# Altium schematic symbol library Schlib_Ruimeng.SchLib: 2 symbols
Pins are listed as number, name and electrical type; pins without a type are passive.

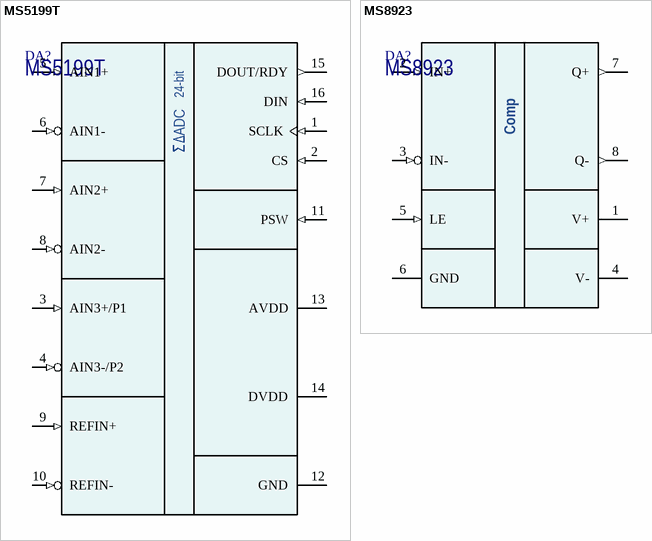
[diagram p0: symbols MS5199T to MS8923]

## MS5199T
designator DA?
Low Noise, Low Power Dissipation, 24-Bit Σ-Δ ADC; Manufacturer: Ruimeng; Part Number: MS5199T; Package: TSSOP-16
footprint TSSOP-16 (TSOP, 20-Leads, Body 6.50x4.40mm, Pitch 0.65mm, IPC Medium Density)
pins: 1 SCLK (in), 2 CS (in), 3 AIN3+/P1 (in), 4 AIN3-/P2 (in), 5 AIN1+ (in), 6 AIN1- (in), 7 AIN2+ (in), 8 AIN2- (in), 9 REFIN+ (in), 10 REFIN- (in), 11 PSW (in), 12 GND (power), 13 AVDD (power), 14 DVDD (power), 15 DOUT/RDY (out), 16 DIN (in)
text: 24-bit; ADC

## MS8923
designator DA?
Low-Voltage, High-Precision, Push-Pull Output Comparator; Manufacturer: Ruimeng; Part Number: MS8923; Package: SOP-8
footprint SOP-8
pins: 1 V+ (power), 2 IN+ (in), 3 IN- (in), 4 V- (power), 5 LE (in), 6 GND (power), 7 Q+ (out), 8 Q- (out)
text: Comp